# Altium footprint library vitech_connectors.PcbLib: 4 footprints
Each footprint in its own frame and in the unit in brackets; x right, y up, seen from the top. Pads: shape width x height; smd on the part's side, far side on the other; paste and mask are expansions set on the pad; w line width, h text height; cw(c..) or ccw(c..) is an arc to the next point about the centre after c.
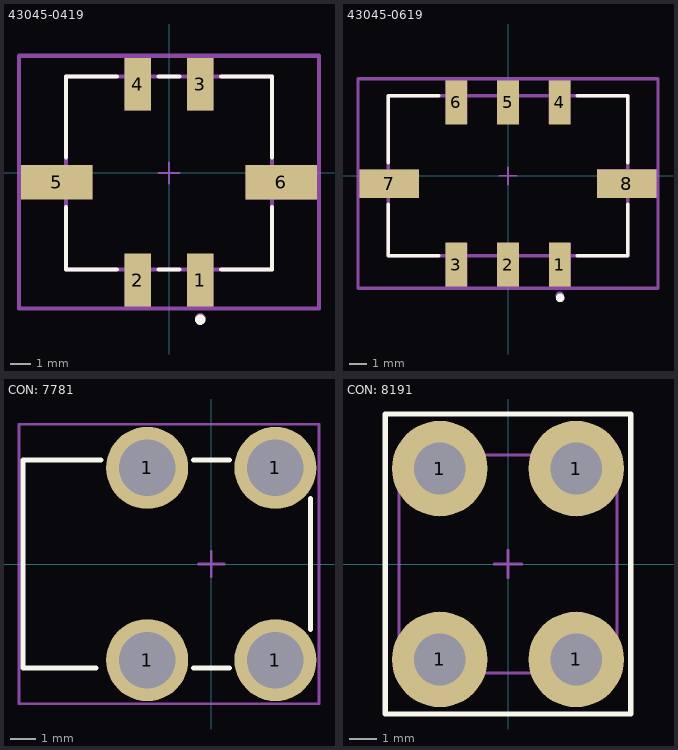
[diagram p0: the footprints below, top view; thin cyan lines are the x and y axes]

## 43045-0419 [mm]
pads (6):
  rect 1.27x2.54 smd paste+0 mask+0: 1(1.5,-5.145) 2(-1.5,-5.145) 3(1.5,4.255) 4(-1.5,4.255)
  rect 3.43x1.65 smd paste+0 mask+0: 5(-5.385,-0.445) 6(5.385,-0.445)
Top Overlay:
  circle w0.25: c1.5,-7.045 r0.125
  lines w0.2: -4.95,-1.645 -4.95,-4.635 -2.51,-4.635 ; -4.95,0.755 -4.95,4.635 -2.51,4.635 ; -0.49,-4.635 0.49,-4.635 ; -0.49,4.635 0.49,4.635 ; 2.51,-4.635 4.95,-4.635 4.95,-1.645 ; 2.51,4.635 4.95,4.635 4.95,0.755
Top 3D Body:
  lines w0.2: -4.95,-4.635 -4.95,4.635 4.95,4.635 4.95,-4.635 -4.95,-4.635
Assembly:
  circle w0.254: c1.5,-6.985 r0.127
  rectangle: 0.864,-6.515 2.14,-3.887
  rectangle: -2.136,-6.515 -0.86,-3.887
  rectangle: 0.864,2.997 2.139,5.625
  rectangle: -2.134,2.997 -0.858,5.625
  rectangle: 3.683,-1.27 7.2,0.365
  rectangle: -7.2,-1.254 -3.683,0.381
  lines w0.2: -7.2,-6.515 7.2,-6.515 ; -7.2,-6.515 -7.2,5.625 ; -7.2,-6.515 -7.2,5.625 ; -7.2,-6.515 7.2,-6.515 ; -7.2,5.625 7.2,5.625 ; -7.2,5.625 7.2,5.625 ; 7.2,-6.515 7.2,5.625 ; 7.2,-6.515 7.2,5.625
Top Assembly:
  text ".Designator" at -1.322,6.49 h0.5
Top Component Center (Mech16):
  lines w0.1: -0.5,0 0.5,0 ; 0,-0.5 0,0.5
Mechanical 19:
  text ".Comment" at -1.29,7.328 h0.5
3D body "Conn_Molex_430450419_eec.STEP": height 0.25, standoff 0, extent -7.2,-6.515 7.2,5.625

## 43045-0619 [mm]
pads (8):
  rect 1.27x2.54 smd paste+0 mask+0: 1(3,-5.145) 2(0,-5.145) 3(-3,-5.145) 4(3,4.255) 5(0,4.255) 6(-3,4.255)
  rect 3.43x1.65 smd paste+0 mask+0: 7(-6.885,-0.445) 8(6.885,-0.445)
Top Overlay:
  circle w0.25: c3.025,-7.075 r0.125
  lines w0.2: -6.95,-1.645 -6.95,-4.635 -4.01,-4.635 ; -6.95,0.755 -6.95,4.635 -4.01,4.635 ; 4.01,-4.635 6.95,-4.635 6.95,-1.645 ; 4.01,4.635 6.95,4.635 6.95,0.755
Top 3D Body:
  lines w0.2: -6.95,-4.635 6.95,-4.635 6.95,4.635 -6.95,4.635 -6.95,-4.635
Assembly:
  circle w0.254: c3,-6.96 r0.127
  rectangle: 5.156,-1.27 8.7,0.384
  rectangle: -8.699,-1.27 -5.182,0.365
  rectangle: -3.632,2.997 -2.357,5.676
  rectangle: -0.635,2.997 0.641,5.676
  rectangle: 2.362,2.997 3.638,5.65
  rectangle: -3.632,-6.515 -2.356,-3.887
  rectangle: -0.644,-6.515 0.632,-3.887
  rectangle: 2.366,-6.515 3.641,-3.887
  lines w0.2: -8.7,-6.515 8.7,-6.515 ; -8.7,-6.515 -8.7,5.625 ; -8.7,-6.515 8.7,-6.515 ; -8.7,-6.515 -8.7,5.625 ; -8.7,5.625 8.7,5.625 ; -8.7,5.625 8.7,5.625 ; 8.7,-6.515 8.7,5.625 ; 8.7,-6.515 8.7,5.625
Top Assembly:
  text ".Designator" at -1.215,6.358 h0.5
Top Component Center (Mech16):
  lines w0.1: -0.5,0 0.5,0 ; 0,-0.5 0,0.5
Mechanical 19:
  text ".Comment" at -1.184,7.196 h0.5
3D body "Conn_Molex_43045-0618_eec.STEP": height 0.25, standoff 0, extent -8.7,-6.515 8.7,5.625

## CON: 7781 [mm]
pads (4):
  round 3.2 hole 2.2: 1(-2.5,-3.75) 1(-2.5,3.75) 1(2.5,-3.75) 1(2.5,3.75)
Top Overlay:
  lines w0.2: -4.5,-4.05 -7.35,-4.05 -7.35,4.05 -4.3,4.05 ; -0.7,-4.05 0.7,-4.05 ; -0.7,4.05 0.7,4.05 ; 3.875,-2.55 3.875,2.55
Assembly:
  lines w0.1: -0.5,0 0.5,0 ; 0,-0.5 0,0.5 ; -7.5,-5.45 -7.5,5.45 4.2,5.45 4.2,-5.45 -7.5,-5.45
Top Assembly:
  text ".Designator" at -2.045,5.813 h0.5
Mechanical 19:
  text ".Comment" at -2.014,6.651 h0.5
3D body "keystone-PN7781.STEP": height 8.01, standoff -4.99, extent -7.5,-4.707 4.023,4.707

## CON: 8191 [mm]
pads (4):
  round 3.5 hole 1.9: 1(-2.5,-3.5) 1(-2.5,3.5) 1(2.5,-3.5) 1(2.5,3.5)
Top Overlay:
  lines w0.2: -4.5,-5.5 4.5,-5.5 4.5,5.5 -4.5,5.5 -4.5,-2.5 -4.5,-5.5
Assembly:
  lines w0.1: -0.5,0 0.5,0 ; 0,-0.5 0,0.5 ; -4,-4 -4,4 4,4 4,-4 -4,-4
3D body "User Library-Terminal 10A Keystone 8191.STEP": height 7.05, standoff -4.45, extent -4,-4 4,4